# Altium footprint library NautilusKB.PcbLib: 28 footprints (part 1 of 2)
Each footprint in its own frame and in the unit in brackets; x right, y up, seen from the top. Pads: shape width x height; smd on the part's side, far side on the other; paste and mask are expansions set on the pad; w line width, h text height; cw(c..) or ccw(c..) is an arc to the next point about the centre after c.
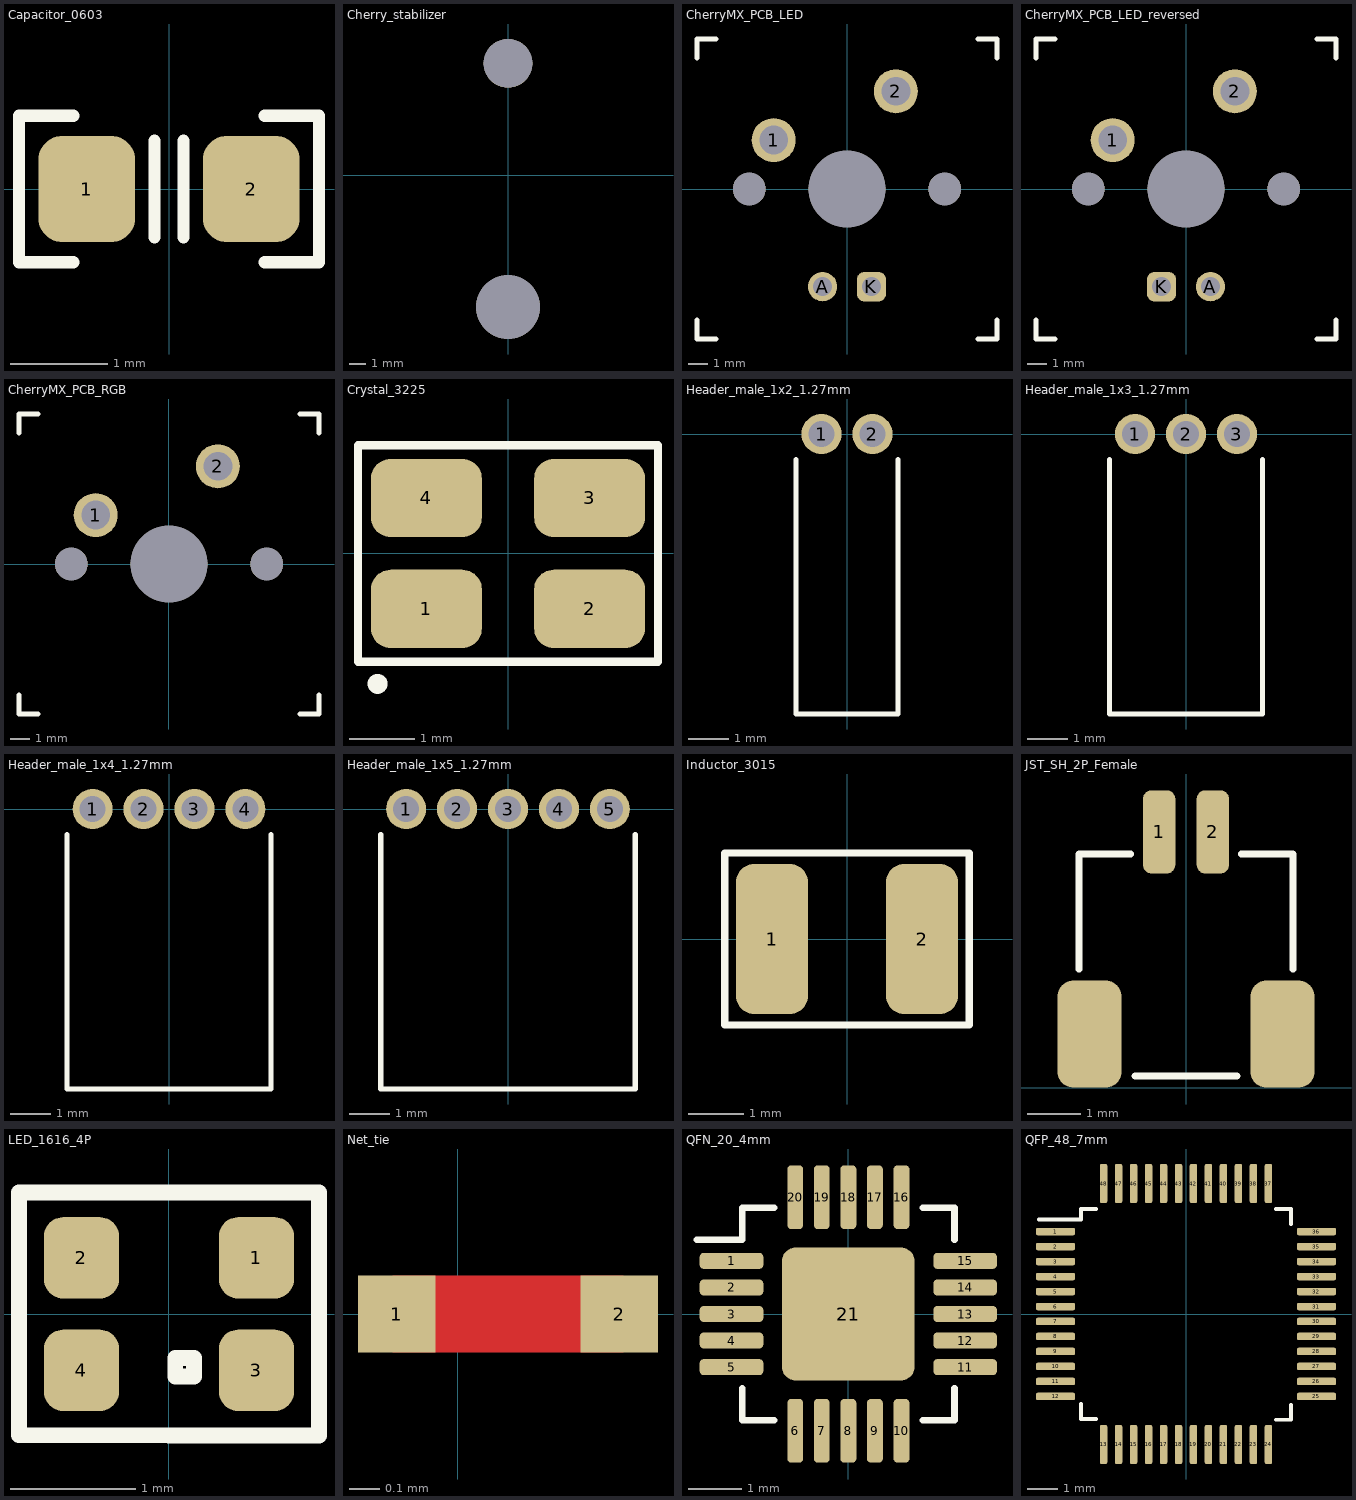
[diagram p0: the footprints below, top view; thin cyan lines are the x and y axes]

## Capacitor_0603 [mm]
pads (2):
  rrect50% 1x1.1 smd: 1(-0.85,0) 2(0.85,0)
Top Overlay:
  lines w0.127: -0.989,-0.756 -1.55,-0.756 -1.55,0 -1.55,0.756 -0.989,0.756 ; -0.15,-0.5 -0.15,0.5 ; 0.15,-0.5 0.15,0.5 ; 0.989,-0.756 1.55,-0.756 1.55,0 1.55,0.756 0.989,0.756
3D body "CAP 0603.STEP": height 0.81, standoff -0.01, extent -0.8,-0.412 0.8,0.412

## Cherry_stabilizer [mil]
pads (2):
  round 157 hole 157: ""(0,-325)
  round 120 hole 120: ""(0,275)
3D body "Cherry MX Stabilizer v2.step": height 490.43, standoff -98.43, extent -133.85,-423.23 133.87,332.68

## CherryMX_PCB_LED [mil]
pads (7):
  round 90 hole 59: 1(-150,100) 2(100,200)
  round 60 hole 39: A(-50,-200)
  rrect50% 60x60 hole 39: K(50,-200)
  round 67 hole 67: ""(-200,0) ""(200,0)
  round 157 hole 157: ""(0,0)
Top Overlay:
  lines w10: -307.09,-267.72 -307.09,-307.09 -267.72,-307.09 ; -307.09,267.72 -307.09,307.09 -267.72,307.09 ; 267.72,-307.09 307.09,-307.09 307.09,-267.72 ; 267.72,307.09 307.09,307.09 307.09,267.72
3D body "MX .STEP": height 618.11, standoff -125.98, extent -307.09,-307.09 307.09,307.09

## CherryMX_PCB_LED_reversed [mil]
pads (7):
  round 90 hole 59: 1(-150,100) 2(100,200)
  round 60 hole 39: A(50,-200)
  rrect50% 60x60 hole 39: K(-50,-200)
  round 67 hole 67: ""(-200,0) ""(200,0)
  round 157 hole 157: ""(0,0)
Top Overlay:
  lines w10: -307.09,-267.72 -307.09,-307.09 -267.72,-307.09 ; -307.09,267.72 -307.09,307.09 -267.72,307.09 ; 267.72,-307.09 307.09,-307.09 307.09,-267.72 ; 267.72,307.09 307.09,307.09 307.09,267.72
3D body "MX .STEP": height 618.11, standoff -125.98, extent -307.09,-307.09 307.09,307.09

## CherryMX_PCB_RGB [mil]
pads (5):
  round 90 hole 59: 1(-150,100) 2(100,200)
  round 67 hole 67: ""(-200,0) ""(200,0)
  round 157 hole 157: ""(0,0)
Top Overlay:
  lines w10: -307.09,-267.72 -307.09,-307.09 -267.72,-307.09 ; -307.09,267.72 -307.09,307.09 -267.72,307.09 ; 267.72,-307.09 307.09,-307.09 ; 267.72,307.09 307.09,307.09 307.09,267.72 ; 307.09,-288.03 307.09,-307.09 ; 307.09,-267.72 307.09,-307.09
3D body "MX .STEP": height 618.11, standoff -125.98, extent -307.09,-307.09 307.09,307.09

## Crystal_3225 [mm]
pads (4):
  rrect50% 1.7x1.2 smd: 1(-1.25,-0.85) 2(1.25,-0.85) 3(1.25,0.85) 4(-1.25,0.85)
Top Overlay:
  circle w0.254: c-2,-2 r0.026
  lines w0.127: -2.3,-1.66 2.3,-1.66 2.3,-1 2.3,0 2.3,1.66 -2.3,1.66 -2.3,1 -2.3,0 -2.3,-1.66
3D body "User Library-tsx-3225-1.step": height 0.6, standoff 0, extent -1.6,-1.25 1.6,1.25

## Header_male_1x2_1.27mm [mm]
pads (2):
  round 1 hole 0.65: 1(-0.635,0) 2(0.635,0)
Top Overlay:
  lines w0.127: -1.27,-6.35 -1.27,-6.985 ; -1.27,-0.635 -1.27,-1.905 -1.27,-6.985 ; -0.635,-6.985 -1.27,-6.985 ; 0.635,-6.985 1.27,-6.985 ; 1.27,-6.35 1.27,-6.985 ; 1.27,-0.635 1.27,-1.905 1.27,-6.985 ; -1.27,-6.985 1.27,-6.985
3D body "Unbenannt.step": height 2.5, standoff -2.5, extent -1.27,-6.985 0,0.215
3D body "Unbenannt.step": height 2.5, standoff -2.5, extent 0,-6.985 1.27,0.215

## Header_male_1x3_1.27mm [mm]
pads (3):
  round 1 hole 0.65: 1(-1.27,0) 2(0,0) 3(1.27,0)
Top Overlay:
  lines w0.127: -1.905,-6.35 -1.905,-6.985 ; -1.905,-0.635 -1.905,-1.905 -1.905,-6.985 ; -1.27,-6.985 -1.905,-6.985 ; 0,-6.985 0.635,-6.985 ; 1.905,-0.635 1.905,-6.985 0.635,-6.985 ; -1.905,-6.985 0.635,-6.985
3D body "Unbenannt.step": height 2.5, standoff -2.5, extent -1.905,-6.985 -0.635,0.215
3D body "Unbenannt.step": height 2.5, standoff -2.5, extent -0.635,-6.985 0.635,0.215
3D body "Unbenannt.step": height 2.5, standoff -2.5, extent 0.635,-6.985 1.905,0.215

## Header_male_1x4_1.27mm [mm]
pads (4):
  round 1 hole 0.65: 1(-1.905,0) 2(-0.635,0) 3(0.635,0) 4(1.905,0)
Top Overlay:
  lines w0.127: -2.54,-6.35 -2.54,-6.985 ; -2.54,-0.635 -2.54,-1.905 -2.54,-6.985 ; -1.905,-6.985 -2.54,-6.985 ; -0.635,-6.985 0,-6.985 ; 2.54,-0.635 2.54,-6.985 1.27,-6.985 0,-6.985 ; -2.54,-6.985 0,-6.985
3D body "Unbenannt.step": height 2.5, standoff -2.5, extent 1.27,-6.985 2.54,0.215
3D body "Unbenannt.step": height 2.5, standoff -2.5, extent -2.54,-6.985 -1.27,0.215
3D body "Unbenannt.step": height 2.5, standoff -2.5, extent -1.27,-6.985 0,0.215
3D body "Unbenannt.step": height 2.5, standoff -2.5, extent 0,-6.985 1.27,0.215

## Header_male_1x5_1.27mm [mm]
pads (5):
  round 1 hole 0.65: 1(-2.54,0) 2(-1.27,0) 3(0,0) 4(1.27,0) 5(2.54,0)
Top Overlay:
  lines w0.127: -3.175,-6.35 -3.175,-6.985 ; -3.175,-0.635 -3.175,-1.905 -3.175,-6.985 ; -2.54,-6.985 -3.175,-6.985 ; -1.27,-6.985 -0.635,-6.985 ; 3.175,-0.635 3.175,-6.985 1.905,-6.985 0.635,-6.985 -0.635,-6.985 ; -3.175,-6.985 -0.635,-6.985
3D body "Unbenannt.step": height 2.5, standoff -2.5, extent -0.635,-6.985 0.635,0.215
3D body "Unbenannt.step": height 2.5, standoff -2.5, extent -1.905,-6.985 -0.635,0.215
3D body "Unbenannt.step": height 2.5, standoff -2.5, extent -3.175,-6.985 -1.905,0.215
3D body "Unbenannt.step": height 2.5, standoff -2.5, extent 0.635,-6.985 1.905,0.215
3D body "Unbenannt.step": height 2.5, standoff -2.5, extent 1.905,-6.985 3.175,0.215

## Inductor_3015 [mm]
pads (2):
  rrect50% 1.3x2.7 smd: 1(-1.35,0) 2(1.35,0)
Top Overlay:
  lines w0.127: -2.2,-1.55 -2.2,0 -2.2,1.55 -1.65,1.55 1.65,1.55 2.2,1.55 2.2,0 2.2,-1.55 1.65,-1.55 -1.65,-1.55 -2.2,-1.55
3D body "NR3015.step": height 1.45, standoff -0.04, extent -1.5,-1.5 1.5,1.5

## JST_SH_2P_Female [mm]
pads (4):
  rrect50% 0.6x1.55 smd: 1(-0.5,4.775) 2(0.5,4.775)
  rrect50% 1.2x2 smd: ""(-1.8,1) ""(1.8,1)
Top Overlay:
  lines w0.127: -2,2.21 -2,4.36 -1.032,4.36 ; -0.95,0.22 0.15,0.22 ; -0.15,0.22 0.95,0.22 ; 1.032,4.36 2,4.36 2,2.21
3D body "SM02B-SRSS-TB.STEP": height 2.94, standoff -0.02, extent -2,0.225 2,5.175

## LED_1616_4P [mm]
pads (4):
  rrect50% 0.6x0.65 smd: 1(0.7,0.45) 2(-0.7,0.45) 3(0.7,-0.45) 4(-0.7,-0.45)
Top Overlay:
  lines w0.127: -1.2,0 -1.2,0.55 -1.2,0.974 0,0.974 ; -1.2,0.004 -1.2,-0.546 -1.2,-0.97 0,-0.97 ; 0,-0.973 1.2,-0.973 1.2,-0.549 1.2,0.001 ; 0,0.973 1.2,0.973 1.2,0.549 1.2,-0.001 ; 0.2,-0.45 0.2,-0.35 0.05,-0.35 0.05,-0.5 0.2,-0.5 0.2,-0.4
3D body "User Library-HSMF-C114(1).step": height 0.34, standoff -0.01, extent -0.8,-0.75 0.8,0.75

## Net_tie [mil]
pads (2):
  rect 10x10 smd mask+4: 1(-7.87,0) 2(20.87,0)
Top Layer:
  lines w10: -7.87,0 20.87,0

## QFN_20_4mm [mm]
pads (21):
  rrect50% 1.2x0.3 smd: 1(-2.2,1) 2(-2.2,0.5) 3(-2.2,0) 4(-2.2,-0.5) 5(-2.2,-1) 11(2.2,-1) 12(2.2,-0.5) 13(2.2,0) 14(2.2,0.5) 15(2.2,1)
  rrect50% 0.3x1.2 smd: 6(-1,-2.2) 7(-0.5,-2.2) 8(0,-2.2) 9(0.5,-2.2) 10(1,-2.2) 16(1,2.2) 17(0.5,2.2) 18(0,2.2) 19(-0.5,2.2) 20(-1,2.2)
  rrect20% 2.5x2.5 smd: 21(0,0)
Top Overlay:
  lines w0.127: -2.85,1.4 -2,1.4 -2,2 -1.4,2 ; -2,-1.4 -2,-2 -1.4,-2 ; 1.4,-2 2,-2 2,-1.4 ; 1.4,2 2,2 2,1.4
3D body "User Library-QFN4x4_20pins.step": height 0.8, standoff 0, extent -2.02,-2.02 2.02,2.02

## QFP_48_7mm [mm]
pads (48):
  rrect50% 1.3x0.25 smd: 1(-4.35,2.75) 2(-4.35,2.25) 3(-4.35,1.75) 4(-4.35,1.25) 5(-4.35,0.75) 6(-4.35,0.25) 7(-4.35,-0.25) 8(-4.35,-0.75) 9(-4.35,-1.25) 10(-4.35,-1.75) 11(-4.35,-2.25) 12(-4.35,-2.749) 25(4.35,-2.749) 26(4.35,-2.25) 27(4.35,-1.75) 28(4.35,-1.25) 29(4.35,-0.75) 30(4.35,-0.25) 31(4.35,0.25) 32(4.35,0.75) 33(4.35,1.25) 34(4.35,1.75) 35(4.35,2.25) 36(4.35,2.75)
  rrect50% 0.25x1.3 smd: 13(-2.75,-4.349) 14(-2.25,-4.349) 15(-1.75,-4.349) 16(-1.25,-4.349) 17(-0.75,-4.349) 18(-0.25,-4.349) 19(0.25,-4.349) 20(0.75,-4.349) 21(1.25,-4.349) 22(1.75,-4.349) 23(2.25,-4.349) 24(2.75,-4.349) 37(2.75,4.35) 38(2.25,4.35) 39(1.75,4.35) 40(1.25,4.35) 41(0.75,4.35) 42(0.25,4.35) 43(-0.25,4.35) 44(-0.75,4.35) 45(-1.25,4.35) 46(-1.75,4.35) 47(-2.25,4.35) 48(-2.75,4.35)
Top Overlay:
  lines w0.127: -4.9,3.15 -3.5,3.15 -3.5,3.5 -3,3.5 ; -3.5,-3 -3.5,-3.5 -3,-3.5 ; 3,-3.522 3.5,-3.522 3.5,-3.022 ; 3,3.5 3.5,3.5 3.5,3
3D body "User Library-TQFP48.step": height 1.1, standoff 0, extent -4.509,-4.509 4.509,4.509